# EAGLE library part BGA725L6E6327FTSA1 (library BGA725L6E6327FTSA1)
IC AMP GPS 1.55-1.615GHZ TSLP6-2 Check availability <https://pricing.snapeda.com/parts/BGA725L6E6327FTSA1/Infineon%20Technologies/view-part?ref=eda>
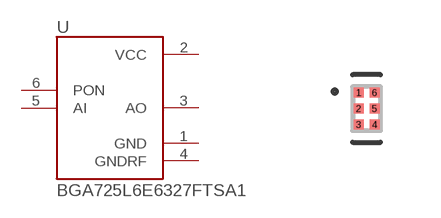
[diagram p0: symbol with the pads of AMP_BGA725L6E6327FTSA1; footprint AMP_BGA725L6E6327FTSA1]

Designator prefix U

## BGA725L6E6327FTSA1 (AVAILABILITY: In Stock; CHECK_PRICES: https://www.snapeda.com/parts/BGA725L6E6327FTSA1/Infineon+Technologies/view-part/?ref=eda; DESCRIPTION: The BGA725L6 is a front-end low noise amplifier for Global Navigation Satellite Systems (GNSS) from 1550 MHz to 1615 MHz like GPS, GLONASS, Beidou, Galileo and others.; MF: Infineon Technologies; MP: BGA725L6E6327FTSA1; PACKAGE: XFDFN-6 Infineon Technologies; PRICE: None; PURCHASE-URL: https://www.snapeda.com/api/url_track_click_mouser/?unipart_id=426432&manufacturer=Infineon Technologies&part_name=BGA725L6E6327FTSA1&search_term=None; SNAPEDA_LINK: https://www.snapeda.com/parts/BGA725L6E6327FTSA1/Infineon+Technologies/view-part/?ref=snap)  [AMP_BGA725L6E6327FTSA1]
1  GND  pwr
2  VCC  pwr
3  AO  out
4  GNDRF  pwr
5  AI  in
6  PON  in

## Footprint AMP_BGA725L6E6327FTSA1 (pad centres in mm)
smd 0.25 x 0.25: 1 -0.2,0.4; 2 -0.2,0; 3 -0.2,-0.4; 4 0.2,-0.4; 5 0.2,0; 6 0.2,0.4